# Altium schematic symbol library 10108877-R10253SLF.SchLib: 1 symbol
Pins are listed as number, name and electrical type; pins without a type are passive.

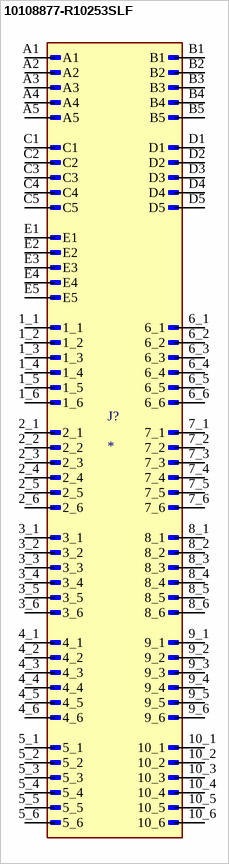
[diagram p0: symbol 10108877-R10253SLF]

## 10108877-R10253SLF
designator J?
MF: {'manufacturer': u'FCI'}; MP: 10108877-R10253SLF; Package: None; Price: None; Value: *; Availability: Unavailable
footprint AMPHENOL_10108877-R10253SLF
pins: 1_1 (power), 1_2 (power), 1_3 (power), 1_4 (power), 1_5 (power), 1_6 (power), 2_1 (power), 2_2 (power), 2_3 (power), 2_4 (power), 2_5 (power), 2_6 (power), 3_1 (power), 3_2 (power), 3_3 (power), 3_4 (power), 3_5 (power), 3_6 (power), 4_1 (power), 4_2 (power), 4_3 (power), 4_4 (power), 4_5 (power), 4_6 (power), 5_1 (power), 5_2 (power), 5_3 (power), 5_4 (power), 5_5 (power), 5_6 (power), 6_1 (power), 6_2 (power), 6_3 (power), 6_4 (power), 6_5 (power), 6_6 (power), 7_1 (power), 7_2 (power), 7_3 (power), 7_4 (power), 7_5 (power), 7_6 (power), 8_1 (power), 8_2 (power), 8_3 (power), 8_4 (power), 8_5 (power), 8_6 (power), 9_1 (power), 9_2 (power), 9_3 (power), 9_4 (power), 9_5 (power), 9_6 (power), 10_1 (power), 10_2 (power), 10_3 (power), 10_4 (power), 10_5 (power), 10_6 (power), A1, A2, A3, A4, A5, B1, B2, B3, B4, B5, C1, C2, C3, C4, C5, D1, D2, D3, D4, D5, E1, E2, E3, E4, E5